# EAGLE library part TPL5110 (library edc_modules)
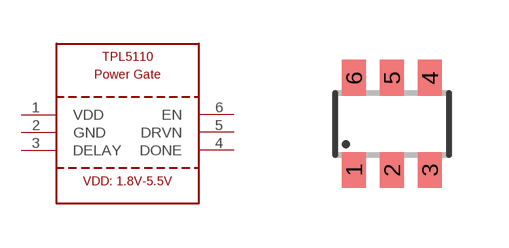
[diagram p4: symbol with the pads of SOT23-6; footprint SOT23-6]

Designator prefix -

## TPL5110  [SOT23-6]
1  VDD
2  GND
3  DELAY
4  DONE
5  DRVN
6  EN

## Footprint SOT23-6 (pad centres in mm)
Small Outline Transistor 6 lead
smd 0.6 x 0.9: 1 -0.95,-1.15; 2 0,-1.15; 3 0.95,-1.15; 4 0.95,1.15; 5 0,1.15; 6 -0.95,1.15